# EAGLE library part IC51-0684-390 (library con-yamaichi-ic51-0684-390)
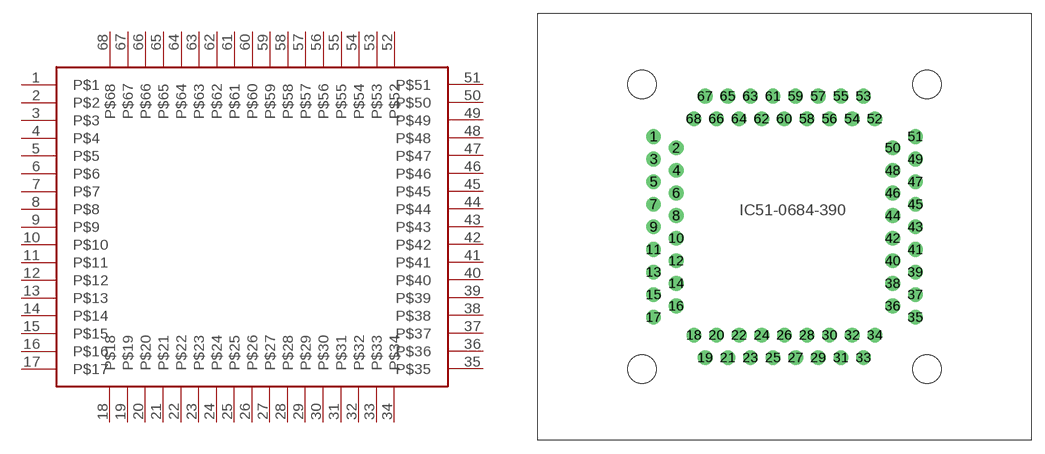
[diagram p0: symbol with the pads of YAMAICHI-IC51-0684-390; footprint YAMAICHI-IC51-0684-390]

Designator prefix -

## IC51-0684-390  [YAMAICHI-IC51-0684-390]
1  P$1
2  P$2
3  P$3
4  P$4
5  P$5
6  P$6
7  P$7
8  P$8
9  P$9
10  P$10
11  P$11
12  P$12
13  P$13
14  P$14
15  P$15
16  P$16
17  P$17
18  P$18
19  P$19
20  P$20
21  P$21
22  P$22
23  P$23
24  P$24
25  P$25
26  P$26
27  P$27
28  P$28
29  P$29
30  P$30
31  P$31
32  P$32
33  P$33
34  P$34
35  P$35
36  P$36
37  P$37
38  P$38
39  P$39
40  P$40
41  P$41
42  P$42
43  P$43
44  P$44
45  P$45
46  P$46
47  P$47
48  P$48
49  P$49
50  P$50
51  P$51
52  P$52
53  P$53
54  P$54
55  P$55
56  P$56
57  P$57
58  P$58
59  P$59
60  P$60
61  P$61
62  P$62
63  P$63
64  P$64
65  P$65
66  P$66
67  P$67
68  P$68

## Footprint YAMAICHI-IC51-0684-390 (pad centres in mm)
drill 1.1 round: 1 -14.7,10.16; 2 -12.16,8.89; 3 -14.7,7.62; 4 -12.16,6.35; 5 -14.7,5.08; 6 -12.16,3.81; 7 -14.7,2.54; 8 -12.16,1.27; 9 -14.7,0; 10 -12.16,-1.27; 11 -14.7,-2.54; 12 -12.16,-3.81; 13 -14.7,-5.08; 14 -12.16,-6.35; 15 -14.7,-7.62; 16 -12.16,-8.89; 17 -14.7,-10.16; 18 -10.17,-12.16; 19 -8.9,-14.7; 20 -7.63,-12.16; 21 -6.36,-14.7; 22 -5.09,-12.16; 23 -3.82,-14.7; 24 -2.55,-12.16; 25 -1.28,-14.7; 26 -0.01,-12.16; 27 1.26,-14.7; 28 2.53,-12.16; 29 3.8,-14.7; 30 5.07,-12.16; 31 6.34,-14.7; 32 7.61,-12.16; 33 8.88,-14.7; 34 10.15,-12.16; 35 14.7,-10.16; 36 12.16,-8.89; 37 14.7,-7.62; 38 12.16,-6.35; 39 14.7,-5.08; 40 12.16,-3.81; 41 14.7,-2.54; 42 12.16,-1.27; 43 14.7,0; 44 12.16,1.27; 45 14.7,2.54; 46 12.16,3.81; 47 14.7,5.08; 48 12.16,6.35; 49 14.7,7.62; 50 12.16,8.89; 51 14.7,10.16; 52 10.14,12.16; 53 8.87,14.7; 54 7.6,12.16; 55 6.33,14.7; 56 5.06,12.16; 57 3.79,14.7; 58 2.52,12.16; 59 1.25,14.7; 60 -0.02,12.16; 61 -1.29,14.7; 62 -2.56,12.16; 63 -3.83,14.7; 64 -5.1,12.16; 65 -6.37,14.7; 66 -7.64,12.16; 67 -8.91,14.7; 68 -10.18,12.16
hole 3.2 at -16,-16
hole 3.2 at 16,-16
hole 3.2 at 16,16
hole 3.2 at -16,16